# Altium integrated library STMicroelectronics STM32 F4.IntLib: 22 symbols (part 5 of 5)
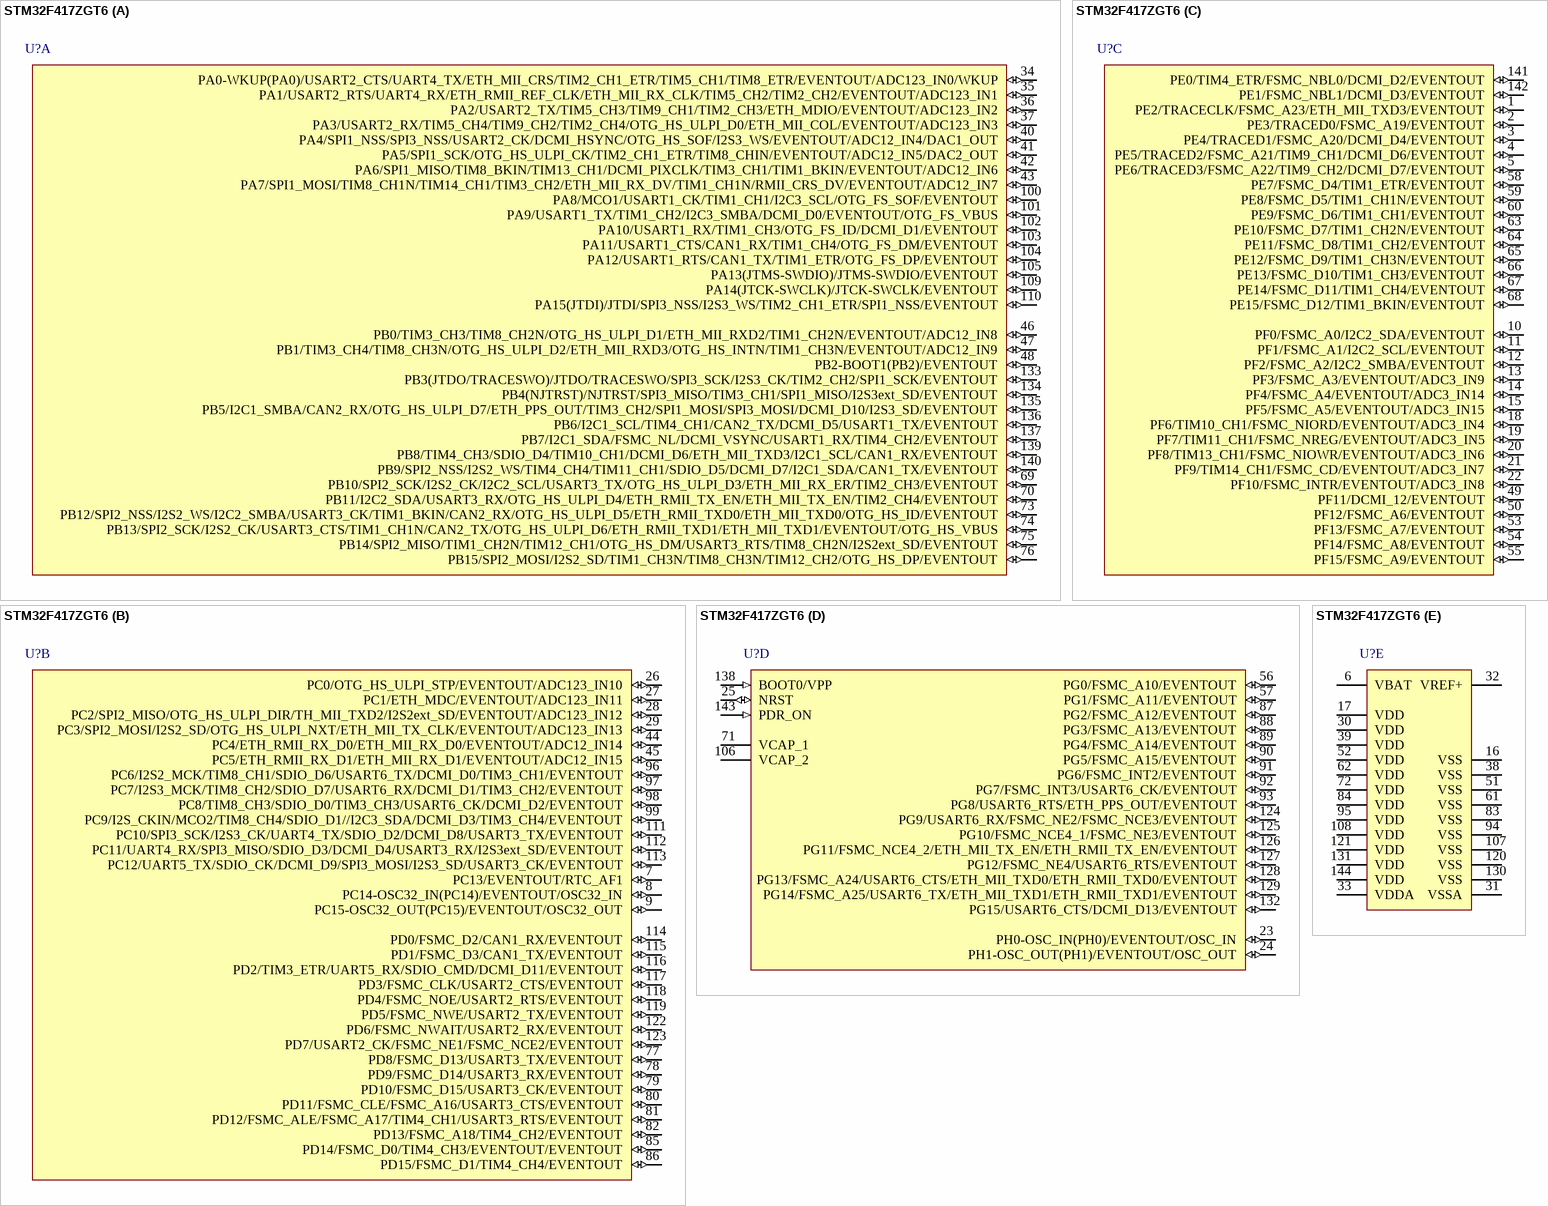
[diagram p25: symbol STM32F417ZGT6]

## STM32F417ZGT6
designator U?
ARM Cortex-M4 32b MCU+FPU, 210DMIP, 1024 kB Flash, 192+4 kB RAM, Crypto, Camera, 114 I/Os, 144-pin LQFP, -40 to +85°C, Tray; Internal RAM: 192kB; Operating Frequency (Processor Speed): 168MHz; A/D Converter: 24x12-bit; D/A Converter: 2x12-bit; 16-bit Timers (IC/OC/PWM): 12x16-bit(24/24/30); 32-bit Timer (IC/OC/PWM): 2x32-bit (8/8/8); Other Timer Functions: 2xWDG, RTC, 24-bit down counter; Serial Interface: 3xSPI/2xI2S/2xI2C/3xUSART(IrDa, ISO7816)/3xUART/2xUSB OTG FS/HS, 2xCAN/Ethernet MAC10/100, SDIO; DatasheetVersion: rev2, Jan-2012; PackageVersion: 2012; PackageReference: TQFP144; PackageDescription: 144-Pin Low Profile Quad Flat Package, 20x20 mm Body, 0.5 mm Pitch; ComponentLink1Description: Manufacturer URL; ComponentLink1URL: http://www.st.com/; ComponentLink2Description: STM32F415/7 Datasheet; ComponentLink2URL: http://www.st.com/internet/com/TECHNICAL_RESOURCES/TECHNICAL_LITERATURE/DATASHEET/DM00035129.pdf; ComponentLink3Description: STM32F4 Web Page; ComponentLink3URL: http://www.st.com/internet/mcu/subclass/1521.jsp
footprint TQFP144_V (Thin QFP, 144-Leads, Body 20x20mm, Pitch 0.5mm, ST Recommended)
footprint TQFP144_N (Thin QFP, 144-Leads, Body 20x20mm, Pitch 0.5mm, IPC Medium Density)
footprint TQFP144_L (Thin QFP, 144-Leads, Body 20x20mm, Pitch 0.5mm, IPC High Density)
footprint TQFP144_M (Thin QFP, 144-Leads, Body 20x20mm, Pitch 0.5mm, IPC Low Density)
part A pins: 34 PA0-WKUP(PA0)/USART2_CTS/UART4_TX/ETH_MII_CRS/TIM2_CH1_ETR/TIM5_CH1/TIM8_ETR/EVENTOUT/ADC123_IN0/WKUP (io), 35 PA1/USART2_RTS/UART4_RX/ETH_RMII_REF_CLK/ETH_MII_RX_CLK/TIM5_CH2/TIM2_CH2/EVENTOUT/ADC123_IN1 (io), 36 PA2/USART2_TX/TIM5_CH3/TIM9_CH1/TIM2_CH3/ETH_MDIO/EVENTOUT/ADC123_IN2 (io), 37 PA3/USART2_RX/TIM5_CH4/TIM9_CH2/TIM2_CH4/OTG_HS_ULPI_D0/ETH_MII_COL/EVENTOUT/ADC123_IN3 (io), 40 PA4/SPI1_NSS/SPI3_NSS/USART2_CK/DCMI_HSYNC/OTG_HS_SOF/I2S3_WS/EVENTOUT/ADC12_IN4/DAC1_OUT (io), 41 PA5/SPI1_SCK/OTG_HS_ULPI_CK/TIM2_CH1_ETR/TIM8_CHIN/EVENTOUT/ADC12_IN5/DAC2_OUT (io), 42 PA6/SPI1_MISO/TIM8_BKIN/TIM13_CH1/DCMI_PIXCLK/TIM3_CH1/TIM1_BKIN/EVENTOUT/ADC12_IN6 (io), 43 PA7/SPI1_MOSI/TIM8_CH1N/TIM14_CH1/TIM3_CH2/ETH_MII_RX_DV/TIM1_CH1N/RMII_CRS_DV/EVENTOUT/ADC12_IN7 (io), 46 PB0/TIM3_CH3/TIM8_CH2N/OTG_HS_ULPI_D1/ETH_MII_RXD2/TIM1_CH2N/EVENTOUT/ADC12_IN8 (io), 47 PB1/TIM3_CH4/TIM8_CH3N/OTG_HS_ULPI_D2/ETH_MII_RXD3/OTG_HS_INTN/TIM1_CH3N/EVENTOUT/ADC12_IN9 (io), 48 PB2-BOOT1(PB2)/EVENTOUT (io), 69 PB10/SPI2_SCK/I2S2_CK/I2C2_SCL/USART3_TX/OTG_HS_ULPI_D3/ETH_MII_RX_ER/TIM2_CH3/EVENTOUT (io), 70 PB11/I2C2_SDA/USART3_RX/OTG_HS_ULPI_D4/ETH_RMII_TX_EN/ETH_MII_TX_EN/TIM2_CH4/EVENTOUT (io), 73 PB12/SPI2_NSS/I2S2_WS/I2C2_SMBA/USART3_CK/TIM1_BKIN/CAN2_RX/OTG_HS_ULPI_D5/ETH_RMII_TXD0/ETH_MII_TXD0/OTG_HS_ID/EVENTOUT (io), 74 PB13/SPI2_SCK/I2S2_CK/USART3_CTS/TIM1_CH1N/CAN2_TX/OTG_HS_ULPI_D6/ETH_RMII_TXD1/ETH_MII_TXD1/EVENTOUT/OTG_HS_VBUS (io), 75 PB14/SPI2_MISO/TIM1_CH2N/TIM12_CH1/OTG_HS_DM/USART3_RTS/TIM8_CH2N/I2S2ext_SD/EVENTOUT (io), 76 PB15/SPI2_MOSI/I2S2_SD/TIM1_CH3N/TIM8_CH3N/TIM12_CH2/OTG_HS_DP/EVENTOUT (io), 100 PA8/MCO1/USART1_CK/TIM1_CH1/I2C3_SCL/OTG_FS_SOF/EVENTOUT (io), 101 PA9/USART1_TX/TIM1_CH2/I2C3_SMBA/DCMI_D0/EVENTOUT/OTG_FS_VBUS (io), 102 PA10/USART1_RX/TIM1_CH3/OTG_FS_ID/DCMI_D1/EVENTOUT (io), 103 PA11/USART1_CTS/CAN1_RX/TIM1_CH4/OTG_FS_DM/EVENTOUT (io), 104 PA12/USART1_RTS/CAN1_TX/TIM1_ETR/OTG_FS_DP/EVENTOUT (io), 105 PA13(JTMS-SWDIO)/JTMS-SWDIO/EVENTOUT (io), 109 PA14(JTCK-SWCLK)/JTCK-SWCLK/EVENTOUT (io), 110 PA15(JTDI)/JTDI/SPI3_NSS/I2S3_WS/TIM2_CH1_ETR/SPI1_NSS/EVENTOUT (io), 133 PB3(JTDO/TRACESWO)/JTDO/TRACESWO/SPI3_SCK/I2S3_CK/TIM2_CH2/SPI1_SCK/EVENTOUT (io), 134 PB4(NJTRST)/NJTRST/SPI3_MISO/TIM3_CH1/SPI1_MISO/I2S3ext_SD/EVENTOUT (io), 135 PB5/I2C1_SMBA/CAN2_RX/OTG_HS_ULPI_D7/ETH_PPS_OUT/TIM3_CH2/SPI1_MOSI/SPI3_MOSI/DCMI_D10/I2S3_SD/EVENTOUT (io), 136 PB6/I2C1_SCL/TIM4_CH1/CAN2_TX/DCMI_D5/USART1_TX/EVENTOUT (io), 137 PB7/I2C1_SDA/FSMC_NL/DCMI_VSYNC/USART1_RX/TIM4_CH2/EVENTOUT (io), 139 PB8/TIM4_CH3/SDIO_D4/TIM10_CH1/DCMI_D6/ETH_MII_TXD3/I2C1_SCL/CAN1_RX/EVENTOUT (io), 140 PB9/SPI2_NSS/I2S2_WS/TIM4_CH4/TIM11_CH1/SDIO_D5/DCMI_D7/I2C1_SDA/CAN1_TX/EVENTOUT (io)
part B pins: 7 PC13/EVENTOUT/RTC_AF1 (io), 8 PC14-OSC32_IN(PC14)/EVENTOUT/OSC32_IN (io), 9 PC15-OSC32_OUT(PC15)/EVENTOUT/OSC32_OUT (io), 26 PC0/OTG_HS_ULPI_STP/EVENTOUT/ADC123_IN10 (io), 27 PC1/ETH_MDC/EVENTOUT/ADC123_IN11 (io), 28 PC2/SPI2_MISO/OTG_HS_ULPI_DIR/TH_MII_TXD2/I2S2ext_SD/EVENTOUT/ADC123_IN12 (io), 29 PC3/SPI2_MOSI/I2S2_SD/OTG_HS_ULPI_NXT/ETH_MII_TX_CLK/EVENTOUT/ADC123_IN13 (io), 44 PC4/ETH_RMII_RX_D0/ETH_MII_RX_D0/EVENTOUT/ADC12_IN14 (io), 45 PC5/ETH_RMII_RX_D1/ETH_MII_RX_D1/EVENTOUT/ADC12_IN15 (io), 77 PD8/FSMC_D13/USART3_TX/EVENTOUT (io), 78 PD9/FSMC_D14/USART3_RX/EVENTOUT (io), 79 PD10/FSMC_D15/USART3_CK/EVENTOUT (io), 80 PD11/FSMC_CLE/FSMC_A16/USART3_CTS/EVENTOUT (io), 81 PD12/FSMC_ALE/FSMC_A17/TIM4_CH1/USART3_RTS/EVENTOUT (io), 82 PD13/FSMC_A18/TIM4_CH2/EVENTOUT (io), 85 PD14/FSMC_D0/TIM4_CH3/EVENTOUT/EVENTOUT (io), 86 PD15/FSMC_D1/TIM4_CH4/EVENTOUT (io), 96 PC6/I2S2_MCK/TIM8_CH1/SDIO_D6/USART6_TX/DCMI_D0/TIM3_CH1/EVENTOUT (io), 97 PC7/I2S3_MCK/TIM8_CH2/SDIO_D7/USART6_RX/DCMI_D1/TIM3_CH2/EVENTOUT (io), 98 PC8/TIM8_CH3/SDIO_D0/TIM3_CH3/USART6_CK/DCMI_D2/EVENTOUT (io), 99 PC9/I2S_CKIN/MCO2/TIM8_CH4/SDIO_D1//I2C3_SDA/DCMI_D3/TIM3_CH4/EVENTOUT (io), 111 PC10/SPI3_SCK/I2S3_CK/UART4_TX/SDIO_D2/DCMI_D8/USART3_TX/EVENTOUT (io), 112 PC11/UART4_RX/SPI3_MISO/SDIO_D3/DCMI_D4/USART3_RX/I2S3ext_SD/EVENTOUT (io), 113 PC12/UART5_TX/SDIO_CK/DCMI_D9/SPI3_MOSI/I2S3_SD/USART3_CK/EVENTOUT (io), 114 PD0/FSMC_D2/CAN1_RX/EVENTOUT (io), 115 PD1/FSMC_D3/CAN1_TX/EVENTOUT (io), 116 PD2/TIM3_ETR/UART5_RX/SDIO_CMD/DCMI_D11/EVENTOUT (io), 117 PD3/FSMC_CLK/USART2_CTS/EVENTOUT (io), 118 PD4/FSMC_NOE/USART2_RTS/EVENTOUT (io), 119 PD5/FSMC_NWE/USART2_TX/EVENTOUT (io), 122 PD6/FSMC_NWAIT/USART2_RX/EVENTOUT (io), 123 PD7/USART2_CK/FSMC_NE1/FSMC_NCE2/EVENTOUT (io)
part C pins: 1 PE2/TRACECLK/FSMC_A23/ETH_MII_TXD3/EVENTOUT (io), 2 PE3/TRACED0/FSMC_A19/EVENTOUT (io), 3 PE4/TRACED1/FSMC_A20/DCMI_D4/EVENTOUT (io), 4 PE5/TRACED2/FSMC_A21/TIM9_CH1/DCMI_D6/EVENTOUT (io), 5 PE6/TRACED3/FSMC_A22/TIM9_CH2/DCMI_D7/EVENTOUT (io), 10 PF0/FSMC_A0/I2C2_SDA/EVENTOUT (io), 11 PF1/FSMC_A1/I2C2_SCL/EVENTOUT (io), 12 PF2/FSMC_A2/I2C2_SMBA/EVENTOUT (io), 13 PF3/FSMC_A3/EVENTOUT/ADC3_IN9 (io), 14 PF4/FSMC_A4/EVENTOUT/ADC3_IN14 (io), 15 PF5/FSMC_A5/EVENTOUT/ADC3_IN15 (io), 18 PF6/TIM10_CH1/FSMC_NIORD/EVENTOUT/ADC3_IN4 (io), 19 PF7/TIM11_CH1/FSMC_NREG/EVENTOUT/ADC3_IN5 (io), 20 PF8/TIM13_CH1/FSMC_NIOWR/EVENTOUT/ADC3_IN6 (io), 21 PF9/TIM14_CH1/FSMC_CD/EVENTOUT/ADC3_IN7 (io), 22 PF10/FSMC_INTR/EVENTOUT/ADC3_IN8 (io), 49 PF11/DCMI_12/EVENTOUT (io), 50 PF12/FSMC_A6/EVENTOUT (io), 53 PF13/FSMC_A7/EVENTOUT (io), 54 PF14/FSMC_A8/EVENTOUT (io), 55 PF15/FSMC_A9/EVENTOUT (io), 58 PE7/FSMC_D4/TIM1_ETR/EVENTOUT (io), 59 PE8/FSMC_D5/TIM1_CH1N/EVENTOUT (io), 60 PE9/FSMC_D6/TIM1_CH1/EVENTOUT (io), 63 PE10/FSMC_D7/TIM1_CH2N/EVENTOUT (io), 64 PE11/FSMC_D8/TIM1_CH2/EVENTOUT (io), 65 PE12/FSMC_D9/TIM1_CH3N/EVENTOUT (io), 66 PE13/FSMC_D10/TIM1_CH3/EVENTOUT (io), 67 PE14/FSMC_D11/TIM1_CH4/EVENTOUT (io), 68 PE15/FSMC_D12/TIM1_BKIN/EVENTOUT (io), 141 PE0/TIM4_ETR/FSMC_NBL0/DCMI_D2/EVENTOUT (io), 142 PE1/FSMC_NBL1/DCMI_D3/EVENTOUT (io)
part D pins: 23 PH0-OSC_IN(PH0)/EVENTOUT/OSC_IN (io), 24 PH1-OSC_OUT(PH1)/EVENTOUT/OSC_OUT (io), 25 NRST (io), 56 PG0/FSMC_A10/EVENTOUT (io), 57 PG1/FSMC_A11/EVENTOUT (io), 71 VCAP_1 (power), 87 PG2/FSMC_A12/EVENTOUT (io), 88 PG3/FSMC_A13/EVENTOUT (io), 89 PG4/FSMC_A14/EVENTOUT (io), 90 PG5/FSMC_A15/EVENTOUT (io), 91 PG6/FSMC_INT2/EVENTOUT (io), 92 PG7/FSMC_INT3/USART6_CK/EVENTOUT (io), 93 PG8/USART6_RTS/ETH_PPS_OUT/EVENTOUT (io), 106 VCAP_2 (power), 124 PG9/USART6_RX/FSMC_NE2/FSMC_NCE3/EVENTOUT (io), 125 PG10/FSMC_NCE4_1/FSMC_NE3/EVENTOUT (io), 126 PG11/FSMC_NCE4_2/ETH_MII_TX_EN/ETH_RMII_TX_EN/EVENTOUT (io), 127 PG12/FSMC_NE4/USART6_RTS/EVENTOUT (io), 128 PG13/FSMC_A24/USART6_CTS/ETH_MII_TXD0/ETH_RMII_TXD0/EVENTOUT (io), 129 PG14/FSMC_A25/USART6_TX/ETH_MII_TXD1/ETH_RMII_TXD1/EVENTOUT (io), 132 PG15/USART6_CTS/DCMI_D13/EVENTOUT (io), 138 BOOT0/VPP (in), 143 PDR_ON (in)
part E pins: 6 VBAT (power), 16 VSS (power), 17 VDD (power), 30 VDD (power), 31 VSSA (power), 32 VREF+ (power), 33 VDDA (power), 38 VSS (power), 39 VDD (power), 51 VSS (power), 52 VDD (power), 61 VSS (power), 62 VDD (power), 72 VDD (power), 83 VSS (power), 84 VDD (power), 94 VSS (power), 95 VDD (power), 107 VSS (power), 108 VDD (power), 120 VSS (power), 121 VDD (power), 130 VSS (power), 131 VDD (power), 144 VDD (power)